# Altium footprint library LimeFEA-mPCIe_1v0.PcbLib: 31 footprints (part 1 of 2)
Each footprint in its own frame and in the unit in brackets; x right, y up, seen from the top. Pads: shape width x height; smd on the part's side, far side on the other; paste and mask are expansions set on the pad; w line width, h text height; cw(c..) or ccw(c..) is an arc to the next point about the centre after c.
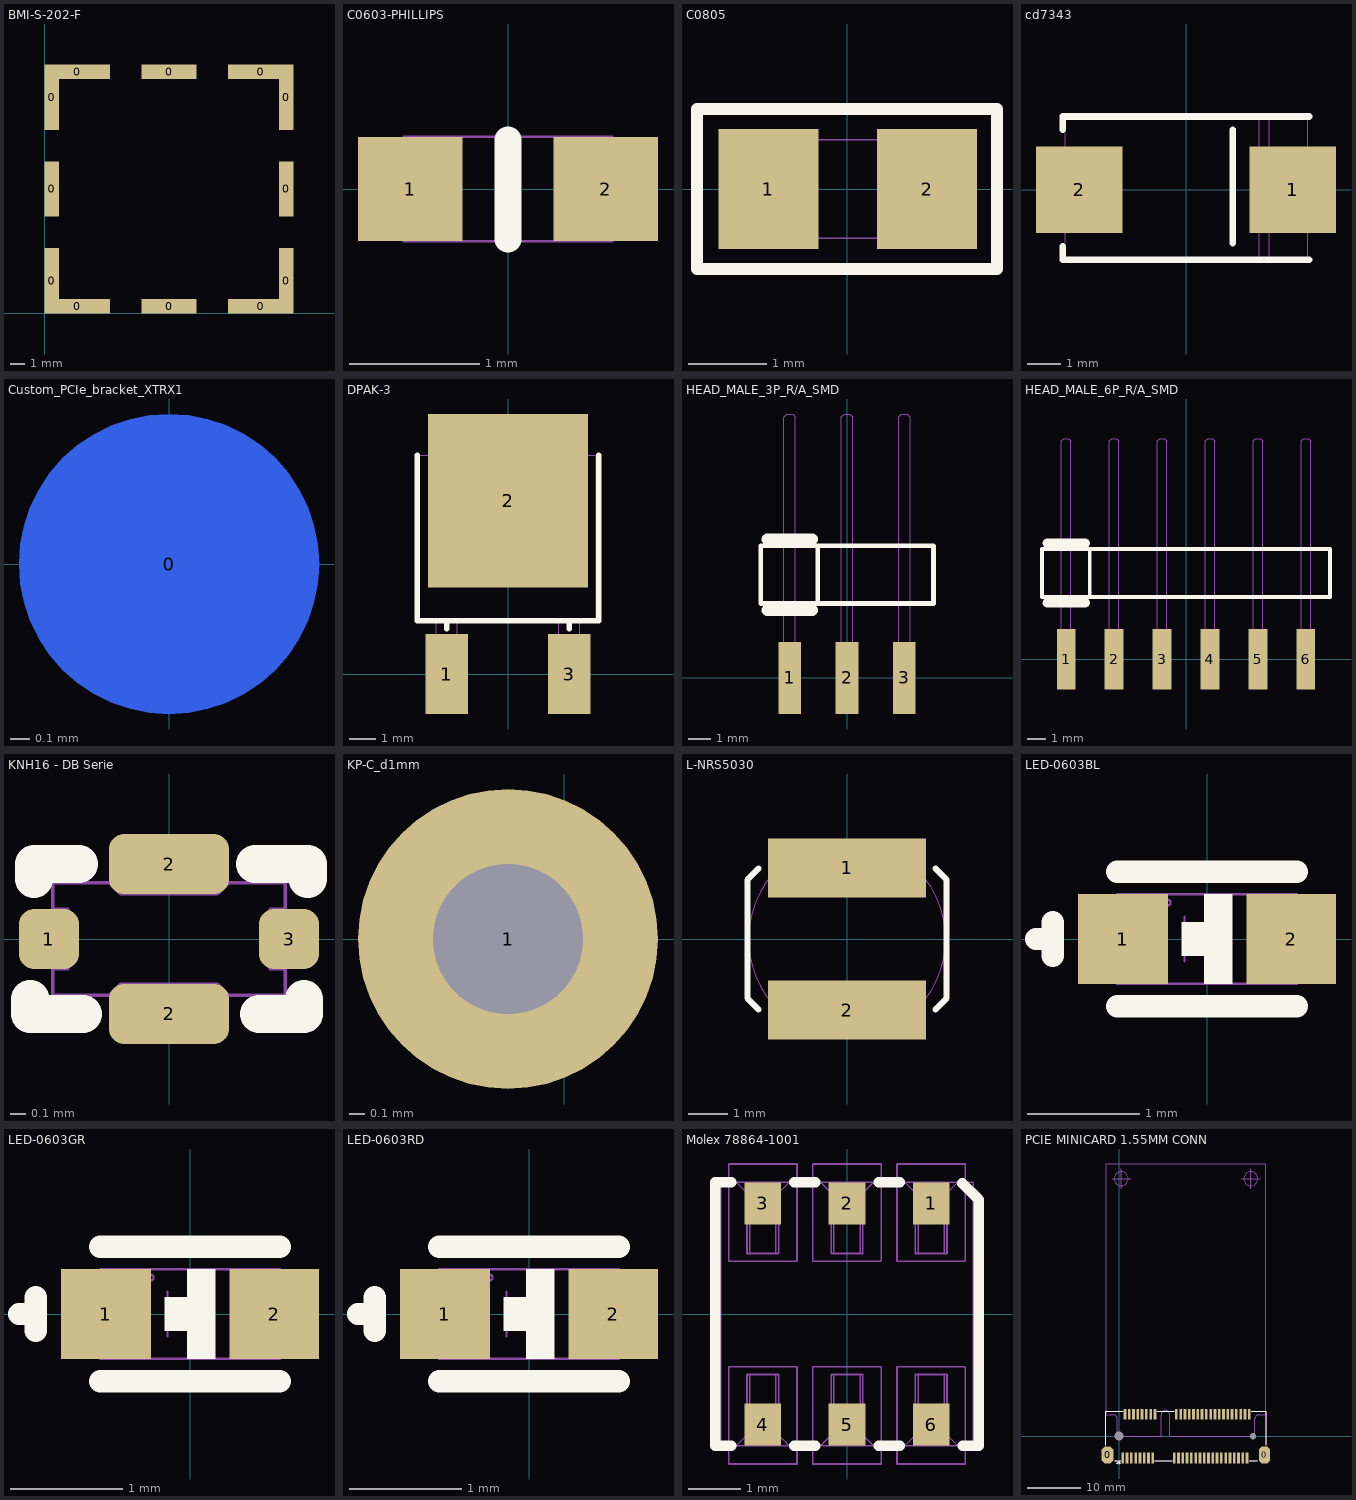
[diagram p0: the footprints below, top view; thin cyan lines are the x and y axes]

## BMI-S-202-F [mm] "Screening Shield Frame 16.5x16.5x3.6mm"
height 3.6
pads (12):
  rect 1x4.55 smd paste-2: 0(0.5,2.275) 0(0.5,15.025) 0(16.8,2.275) 0(16.8,15.025)
  rect 1x3.8 smd: 0(0.5,8.65) 0(16.8,8.65)
  rect 4.55x1 smd: 0(2.275,0.5) 0(2.275,16.8) 0(15.025,0.5) 0(15.025,16.8)
  rect 3.8x1 smd: 0(8.65,0.5) 0(8.65,16.8)
Top Paste:
  region: 17.3,16.1 16.3,16.1 16.3,12.75 17.3,12.75
  rectangle: 16.3,1.2 17.3,4.55
  rectangle: 0,1.2 1,4.55
  rectangle: 0,12.75 1,16.1
Mechanical 1:
  text ".Designator" at 0.525,0.125 h0.5
3D body: height 3.6, standoff 3.5, extent 0.4,0.6 2,16.7
3D body: height 3.6, standoff 3.5, extent 1.5,7.95 5.65,9.35
3D body: height 3.6, standoff 3.5, extent 0.6,15.3 16.7,16.9
3D body: height 3.6, standoff 3.5, extent 7.95,11.65 9.35,15.8
3D body: height 3.6, standoff 3.5, extent 15.3,0.6 16.9,16.7
3D body: height 3.6, standoff 3.5, extent 11.65,7.95 15.8,9.35
3D body: height 0.5, standoff 0, extent 16.7,13.05 16.9,16.7
3D body: height 0.5, standoff 0, extent 13.05,16.7 16.7,16.9
3D body: height 0.5, standoff 0, extent 0.6,16.7 4.25,16.9
3D body: height 0.5, standoff 0, extent 0.4,13.05 0.6,16.7
3D body: height 0.5, standoff 0, extent 13.05,0.4 16.7,0.6
3D body: height 0.5, standoff 0, extent 16.7,0.6 16.9,4.25
3D body: height 0.5, standoff 0, extent 0.4,0.6 0.6,4.25
3D body: height 0.5, standoff 0, extent 7.15,16.7 10.15,16.9
3D body: height 0.5, standoff 0, extent 16.7,7.15 16.9,10.15
3D body: height 0.5, standoff 0, extent 0.4,7.15 0.6,10.15
3D body: height 0.5, standoff 0, extent 0.6,0.4 4.25,0.6
3D body: height 3.6, standoff 3.5, extent 7.95,1.5 9.35,5.65
3D body: height 3.6, standoff 3.5, extent 5.65,5.65 11.65,11.65
3D body: height 3.6, standoff 0.5, extent 0.6,0.4 16.7,0.6
3D body: height 3.6, standoff 0.5, extent 0.4,0.6 0.6,16.7
3D body: height 3.6, standoff 0.5, extent 0.6,16.7 16.7,16.9
3D body: height 3.6, standoff 0.5, extent 16.7,0.6 16.9,16.7
3D body: height 3.6, standoff 3.5, extent 0.6,0.4 16.7,2
3D body: height 0.5, standoff 0, extent 7.15,0.4 10.15,0.6

## C0603-PHILLIPS [mm]
height 0.8
pads (2):
  rect 0.8x0.8 smd: 1(-0.75,0) 2(0.75,0)
Top Overlay:
  lines w0.203: 0,-0.384 0,0.378
Mechanical 1:
  lines w0.02: -0.4,-0.4 -0.4,0.4 ; 0.4,-0.4 0.4,0.4 ; -0.8,-0.4 -0.8,0.4 0.8,0.4 0.8,-0.4 -0.8,-0.4
  text ".Designator" at -0.2,-0.224 h0.5
3D body "SW3dPS-0603 SMD Capacitor.STEP": height 0.3, standoff 0, extent -0.8,-0.4 0.8,0.4

## C0805 [mil]
height 19.68
pads (2):
  rect 50x60 smd: 1(-39.37,0) 2(40,0)
Top Overlay:
  lines w6: -75,-40 75,-40 75,40 -75,40 -75,-40
Mechanical 1:
  lines w0.8: -19.68,-24.61 -19.68,24.61 ; 19.68,-23.62 19.68,24.61 ; -39.37,-24.61 39.37,-24.61 39.37,24.61 -39.37,24.61 -39.37,-24.61
  text ".Designator" at 10.87,9.84 h19.68
3D body "SW3dPS-0805 SMD Capacitor.STEP": height 30.79, standoff 0, extent -39.02,-24.02 39.72,25.2

## cd7343 [mm]
height 3.1
pads (2):
  rect 2.6x2.6 smd: 1(3.2,0) 2(-3.2,0)
Top Overlay:
  lines w0.2: -3.7,-1.7 -3.7,-2.1 3.7,-2.1 ; -3.7,1.8 -3.7,2.2 3.7,2.2 ; 1.4,-1.6 1.4,1.8
Mechanical 1:
  lines w0.02: -3.65,-2.15 3.65,-2.15 3.65,2.15 -3.625,2.15 -3.625,-2.15 ; 2.2,-2.1 2.2,2.2 ; 2.5,-2.1 2.5,2.2
  text ".Designator" at -0.525,-0.15 h0.5
3D body: height 3.1, standoff 3, extent 2.2,-2.025 2.5,2.025
3D body: height 3, standoff 0, extent -3.481,-2.039 3.505,2.032
3D body: height 1.5, standoff 0, extent 3.392,-0.82 3.487,0.869
3D body: height 1.5, standoff 0, extent -3.512,-0.915 -3.308,0.855

## Custom_PCIe_bracket_XTRX1 [mil] "3D STEP model of XTRX Custom-made PCIe bracket v1"
height 787.4
pads (1):
  round 60 smd far side paste-78.74: 0(0,0)
3D body "PCIe 1XTRX v11 Full Height Bracket w holes rev5.stp": height 175, standoff -675, extent -125.01,-3793.98 819.99,964.26

## DPAK-3 [mm] "TO-252"
height 2.4
pads (3):
  rect 1.6x3 smd: 1(-2.3,0) 3(2.3,0)
  rect 6x6.5 smd: 2(0,6.5)
Top Overlay:
  lines w0.2: -3.4,8.2 -3.4,2 3.4,2 3.4,8.2 ; -2.3,1.7 -2.3,2 ; 2.3,1.7 2.3,2
Mechanical 1:
  lines w0.02: -2.7,2 -2.7,-0.8 -1.9,-0.8 -1.9,2 ; 1.9,2 1.9,-0.8 2.7,-0.8 2.7,2 ; -3.3,2 -3.3,8.2 3.3,8.2 3.3,2 -3.3,2 ; -2.6,4.3 2.6,4.3 2.6,8.4 1.6,9.4 -1.6,9.4 -2.6,8.4 -2.6,4.3
  text ".Designator" at -0.311,5.675 h0.5
3D body "dpack(to-252).step": height 2.4, standoff 0, extent -3.3,-0.9 3.3,9.2

## HEAD_MALE_3P_R/A_SMD [mm] "Samtec Header Male 3p 2.54mm Right Angle SMD"
height 3.05
pads (3):
  rect 1x3.2 smd: 1(-2.54,0) 2(0,0) 3(2.54,0)
Top Overlay:
  lines w0.203: -1.295,3.3 -1.295,5.85 ; -3.815,3.3 -3.815,5.85 3.835,5.85 3.835,3.3 -3.815,3.3
  lines w0.5: -3.54,3 -1.54,3 ; -3.54,6.15 -1.54,6.15
Mechanical 1:
  lines w0.02: -2.794,-1.125 -2.792,-1.125 -2.667,-1.25 -2.413,-1.25 -2.288,-1.125 -2.286,-1.125 -2.286,11.575 -2.288,11.575 -2.413,11.7 -2.667,11.7 -2.792,11.575 -2.794,11.575 -2.794,-1.125 ; -0.254,-1.125 -0.254,11.575 -0.252,11.575 -0.127,11.7 0.127,11.7 0.252,11.575 0.254,11.575 0.254,-1.125 0.252,-1.125 0.127,-1.25 -0.127,-1.25 -0.252,-1.125 -0.254,-1.125 ; 2.286,-1.125 2.286,11.575 2.288,11.575 2.413,11.7 2.667,11.7 2.792,11.575 2.794,11.575 2.794,-1.125 2.792,-1.125 2.667,-1.25 2.413,-1.25 2.288,-1.125 2.286,-1.125
  lines w0.025: -1.275,3.3 -1.275,5.84 ; -3.815,3.3 3.835,3.3 3.835,5.84 -3.815,5.84 -3.815,3.3
  text ".Designator" at 0.95,4.379 h0.5
3D body "Header Male Pin RA 2_54 SMD.stp": height 3.05, standoff 0, extent 1.271,-1.505 3.811,11.692
3D body "Header Male Pin RA 2_54 SMD.stp": height 3.05, standoff 0, extent -1.269,-1.505 1.271,11.692
3D body "Header Male Pin RA 2_54 SMD.stp": height 3.05, standoff 0, extent -3.809,-1.505 -1.269,11.692

## HEAD_MALE_6P_R/A_SMD [mm] "Samtec Header Male 6p 2.54mm Right Angle SMD"
height 3.05
pads (6):
  rect 1x3.2 smd: 1(-6.35,0) 2(-3.81,0) 3(-1.27,0) 4(1.27,0) 5(3.81,0) 6(6.35,0)
Top Overlay:
  lines w0.203: -5.105,3.3 -5.105,5.85 ; -7.625,3.3 7.625,3.3 7.625,5.85 -7.625,5.85 -7.625,3.3
  lines w0.5: -7.35,3 -5.35,3 ; -7.35,6.15 -5.35,6.15
Mechanical 1:
  lines w0.02: -6.604,-1.125 -6.604,11.575 -6.602,11.575 -6.477,11.7 -6.223,11.7 -6.098,11.575 -6.096,11.575 -6.096,-1.125 -6.098,-1.125 -6.223,-1.25 -6.477,-1.25 -6.602,-1.125 -6.604,-1.125 ; -4.064,-1.125 -4.062,-1.125 -3.937,-1.25 -3.683,-1.25 -3.558,-1.125 -3.556,-1.125 -3.556,11.575 -3.558,11.575 -3.683,11.7 -3.937,11.7 -4.062,11.575 -4.064,11.575 -4.064,-1.125 ; -1.524,-1.125 -1.522,-1.125 -1.397,-1.25 -1.143,-1.25 -1.018,-1.125 -1.016,-1.125 -1.016,11.575 -1.018,11.575 -1.143,11.7 -1.397,11.7 -1.522,11.575 -1.524,11.575 -1.524,-1.125 ; 1.016,-1.125 1.018,-1.125 1.143,-1.25 1.397,-1.25 1.522,-1.125 1.524,-1.125 1.524,11.575 1.522,11.575 1.397,11.7 1.143,11.7 1.018,11.575 1.016,11.575 1.016,-1.125 ; 3.556,-1.125 3.558,-1.125 3.683,-1.25 3.937,-1.25 4.062,-1.125 4.064,-1.125 4.064,11.575 4.062,11.575 3.937,11.7 3.683,11.7 3.558,11.575 3.556,11.575 3.556,-1.125 ; 6.096,-1.125 6.098,-1.125 6.223,-1.25 6.477,-1.25 6.602,-1.125 6.604,-1.125 6.604,11.575 6.602,11.575 6.477,11.7 6.223,11.7 6.098,11.575 6.096,11.575 6.096,-1.125
  lines w0.025: -5.085,3.3 -5.085,5.84 ; -7.625,3.3 -7.625,5.84 7.615,5.84 7.615,3.3 -7.625,3.3
  text ".Designator" at -0.375,4.362 h0.5
3D body "Header Male Pin RA 2_54 SMD.stp": height 3.05, standoff 0, extent -7.619,-1.505 -5.079,11.692
3D body "Header Male Pin RA 2_54 SMD.stp": height 3.05, standoff 0, extent -5.079,-1.505 -2.539,11.692
3D body "Header Male Pin RA 2_54 SMD.stp": height 3.05, standoff 0, extent -2.539,-1.505 0.001,11.692
3D body "Header Male Pin RA 2_54 SMD.stp": height 3.05, standoff 0, extent 0.001,-1.505 2.541,11.692
3D body "Header Male Pin RA 2_54 SMD.stp": height 3.05, standoff 0, extent 2.541,-1.505 5.081,11.692
3D body "Header Male Pin RA 2_54 SMD.stp": height 3.05, standoff 0, extent 5.081,-1.505 7.621,11.692

## KNH16 - DB Serie [mm] "EMI Filter"
height 0.6
pads (4):
  rrect50% 0.4x0.4 smd mask+0.05: 1(-0.8,0) 3(0.8,0)
  rrect50% 0.8x0.4 smd mask+0.05: 2(0,-0.5) 2(0,0.5)
Top Overlay:
  lines w0.254: -0.925,-0.4 -0.925,-0.5 -0.575,-0.5 ; -0.9,0.4 -0.9,0.5 -0.6,0.5 ; 0.575,0.5 0.925,0.5 0.925,0.4 ; 0.6,-0.5 0.9,-0.5 0.9,-0.4
Mechanical 1:
  lines w0.02: -0.775,-0.2 -0.675,-0.2 -0.675,0.2 -0.775,0.2 ; -0.4,-0.375 -0.325,-0.3 0.325,-0.3 0.4,-0.375 ; -0.4,0.375 -0.325,0.3 0.325,0.3 0.4,0.375 ; 0.775,-0.2 0.675,-0.2 0.675,0.2 0.775,0.2
  lines w0.025: -0.775,-0.375 0.775,-0.375 0.775,0.375 -0.775,0.375 -0.775,-0.375
  text ".Designator" at -0.7,-0.25 h0.5
3D body: height 0.6, standoff 0, extent -0.4,-0.397 0.398,-0.3
3D body: height 0.6, standoff 0, extent 0.675,-0.2 0.787,0.2
3D body: height 0.6, standoff 0, extent -0.398,0.3 0.4,0.397
3D body: height 0.59, standoff 0.01, extent -0.775,-0.375 0.775,0.375
3D body: height 0.6, standoff 0, extent -0.787,-0.2 -0.675,0.2

## KP-C_d1mm [mm]
height 0.02
pads (1):
  round 2 hole 1: 1(-0.375,0)
Mechanical 1:
  circle w0.02: c0,0 r0.5
  text ".Designator" at -0.6,0.986 h0.5

## L-NRS5030 [mm] "Inductor Taiyo Yuden 5x5mm"
height 3
pads (2):
  rect 4x1.5 smd: 1(0,1.8) 2(0,-1.8)
Top Overlay:
  lines w0.152: -2.237,-1.788 -2.525,-1.5 -2.525,1.5 -2.237,1.788 ; 2.237,-1.788 2.525,-1.5 2.525,1.5 2.237,1.788
Mechanical 1:
  circle w0.025: c0,0 r2.5
  text ".Designator" at 0.65,0.4 h0.5
3D body "Inductor NRS5030.step": height 3, standoff 0, extent -2.45,-2.45 2.45,2.45

## LED-0603BL [mm] "LED BLUE 0603"
height 0.8
pads (2):
  rect 0.8x0.8 smd: 1(-0.75,0) 2(0.75,0)
Top Overlay:
  region: -0.025,0.15 -0.025,0.4 0.225,0.4 0.225,-0.4 -0.025,-0.4 -0.025,-0.15 -0.225,-0.15 -0.225,0.15
  lines w0.2: -1.525,0 -1.375,0 ; -1.375,-0.15 -1.375,0.15 ; -0.8,-0.6 0.8,-0.6 ; -0.8,0.6 0.8,0.6
Mechanical 1:
  circle w0.02: c-0.35,0.325 r0.025
  lines w0.02: -0.45,-0.4 -0.45,0.4 ; -0.2,-0.2 -0.2,0.2 ; 0.45,-0.4 0.45,0.4 ; -0.8,-0.4 -0.8,-0.125 ccw(c-0.8,0) -0.8,0.125 -0.8,0.4 0.8,0.4 0.8,0.125 ccw(c0.8,0) 0.8,-0.125 0.8,-0.4 -0.8,-0.4 ; -0.2,0 0.1,-0.2 0.1,0.2 -0.2,0
  text ".Designator" at -3.675,-0.25 h0.5
3D body: height 0.38, standoff 0, extent -1.089,-0.4 -0.664,0.403
3D body: height 0.38, standoff 0, extent 0.5,-0.4 0.925,0.4
3D body: height 0.38, standoff 0, extent -0.667,-0.4 0.501,0.4
3D body: height 0.8, standoff 0.38, extent -0.493,-0.402 0.301,0.4

## LED-0603GR [mm] "LED GREEN 0603"
height 0.8
pads (2):
  rect 0.8x0.8 smd: 1(-0.75,0) 2(0.75,0)
Top Overlay:
  region: -0.025,0.15 -0.025,0.4 0.225,0.4 0.225,-0.4 -0.025,-0.4 -0.025,-0.15 -0.225,-0.15 -0.225,0.15
  lines w0.2: -1.525,0 -1.375,0 ; -1.375,-0.15 -1.375,0.15 ; -0.8,-0.6 0.8,-0.6 ; -0.8,0.6 0.8,0.6
Mechanical 1:
  circle w0.02: c-0.35,0.325 r0.025
  lines w0.02: -0.45,-0.4 -0.45,0.4 ; -0.2,-0.2 -0.2,0.2 ; 0.45,-0.4 0.45,0.4 ; -0.8,-0.4 -0.8,-0.125 ccw(c-0.8,0) -0.8,0.125 -0.8,0.4 0.8,0.4 0.8,0.125 ccw(c0.8,0) 0.8,-0.125 0.8,-0.4 -0.8,-0.4 ; -0.2,0 0.1,-0.2 0.1,0.2 -0.2,0
  text ".Designator" at -3.675,-0.238 h0.5
3D body: height 0.38, standoff 0, extent -1.089,-0.4 -0.664,0.403
3D body: height 0.38, standoff 0, extent 0.5,-0.4 0.925,0.4
3D body: height 0.38, standoff 0, extent -0.667,-0.4 0.501,0.4
3D body: height 0.8, standoff 0.38, extent -0.493,-0.402 0.301,0.4

## LED-0603RD [mm] "LED RED 0603"
height 0.8
pads (2):
  rect 0.8x0.8 smd: 1(-0.75,0) 2(0.75,0)
Top Overlay:
  region: -0.025,0.15 -0.025,0.4 0.225,0.4 0.225,-0.4 -0.025,-0.4 -0.025,-0.15 -0.225,-0.15 -0.225,0.15
  lines w0.2: -1.525,0 -1.375,0 ; -1.375,-0.15 -1.375,0.15 ; -0.8,-0.6 0.8,-0.6 ; -0.8,0.6 0.8,0.6
Mechanical 1:
  circle w0.02: c-0.35,0.325 r0.025
  lines w0.02: -0.45,-0.4 -0.45,0.4 ; -0.2,-0.2 -0.2,0.2 ; 0.45,-0.4 0.45,0.4 ; -0.8,-0.4 -0.8,-0.125 ccw(c-0.8,0) -0.8,0.125 -0.8,0.4 0.8,0.4 0.8,0.125 ccw(c0.8,0) 0.8,-0.125 0.8,-0.4 -0.8,-0.4 ; -0.2,0 0.1,-0.2 0.1,0.2 -0.2,0
  text ".Designator" at -3.675,-0.218 h0.5
3D body: height 0.38, standoff 0, extent -1.089,-0.4 -0.664,0.403
3D body: height 0.38, standoff 0, extent 0.5,-0.4 0.925,0.4
3D body: height 0.38, standoff 0, extent -0.667,-0.4 0.501,0.4
3D body: height 0.8, standoff 0.38, extent -0.493,-0.402 0.301,0.4

## Molex 78864-1001 [mm] "Spring connector, gap=1.2~1.6mm, pitch=1.6mm, 6pos"
height 2
pads (6):
  rect 0.7x0.8 smd: 1(1.6,2.1) 2(0,2.1) 3(-1.6,2.1) 4(-1.6,-2.1) 5(0,-2.1) 6(1.6,-2.1)
Top Overlay:
  lines w0.2: -2.2,-2.5 -2.5,-2.5 -2.5,2.5 -2.2,2.5 ; -1,-2.5 -0.6,-2.5 ; -1,2.5 -0.6,2.5 ; 0.6,-2.5 1,-2.5 ; 0.6,2.5 1,2.5 ; 2.188,2.488 2.5,2.175 2.5,-2.5 2.2,-2.5
Mechanical 1:
  lines w0.03: -2.1,-2.5 -1.9,-2.3 -1.9,-1.15 -1.3,-1.15 -1.3,-2.3 -1.1,-2.5 ; -2.1,2.5 -1.9,2.3 -1.9,1.15 -1.3,1.15 -1.3,2.3 -1.1,2.5 ; -1.85,-1.15 -1.85,-2.4 -1.35,-2.4 -1.35,-1.15 ; -1.85,1.15 -1.85,2.4 -1.35,2.4 -1.35,1.15 ; -0.5,-2.5 -0.3,-2.3 -0.3,-1.15 0.3,-1.15 0.3,-2.3 0.5,-2.5 ; -0.5,2.5 -0.3,2.3 -0.3,1.15 0.3,1.15 0.3,2.3 0.5,2.5 ; -0.25,-1.15 -0.25,-2.4 0.25,-2.4 0.25,-1.15 ; -0.25,1.15 -0.25,2.4 0.25,2.4 0.25,1.15 ; 1.1,-2.5 1.3,-2.3 1.3,-1.15 1.9,-1.15 1.9,-2.3 2.1,-2.5 ; 1.1,2.5 1.3,2.3 1.3,1.15 1.9,1.15 1.9,2.3 2.1,2.5 ; 1.35,-1.15 1.35,-2.4 1.85,-2.4 1.85,-1.15 ; 1.35,1.15 1.35,2.4 1.85,2.4 1.85,1.15 ; -2.4,-2.5 -2.4,2.5 2.4,2.5 2.4,-2.5 -2.4,-2.5 ; -2.25,-2.85 -2.25,-1 -0.95,-1 -0.95,-2.85 -2.25,-2.85 ; -2.25,1 -2.25,2.85 -0.95,2.85 -0.95,1 -2.25,1 ; -0.65,-2.85 -0.65,-1 0.65,-1 0.65,-2.85 -0.65,-2.85 ; -0.65,1 0.65,1 0.65,2.85 -0.65,2.85 -0.65,1 ; 0.95,-2.85 0.95,-1 2.25,-1 2.25,-2.85 0.95,-2.85 ; 0.95,1 2.25,1 2.25,2.85 0.95,2.85 0.95,1
  text ".Designator" at -0.25,0.7 h0.5
3D body "Molex_788641001.stp": height 2, standoff 0, extent -2.4,-2.5 2.4,2.5

## PCIE MINICARD 1.55MM CONN [mm] "PCIe MiniCard connector full size with mounting nuts"
height 4
pads (56):
  oct 2.3x3.2 smd: 0(-2.15,-3.5)
  oct 2x3.2 smd: 0(27.15,-3.5)
  rect 0.5x2 smd mask+0.05: 1(0.7,-4.1) 2(1.1,4.1) 3(1.5,-4.1) 4(1.9,4.1) 5(2.3,-4.1) 6(2.7,4.1) 7(3.1,-4.1) 8(3.5,4.1) 9(3.9,-4.1) 10(4.3,4.1) 11(4.7,-4.1) 12(5.1,4.1) 13(5.5,-4.1) 14(5.9,4.1) 15(6.3,-4.1) 16(6.7,4.1) 17(10.3,-4.1) 18(10.7,4.1) 19(11.1,-4.1) 20(11.5,4.1) 21(11.9,-4.1) 22(12.3,4.1) 23(12.7,-4.1) 24(13.1,4.1) 25(13.5,-4.1) 26(13.9,4.1) 27(14.3,-4.1) 28(14.7,4.1) 29(15.1,-4.1) 30(15.5,4.1) 31(15.9,-4.1) 32(16.3,4.1) 33(16.7,-4.1) 34(17.1,4.1) 35(17.5,-4.1) 36(17.9,4.1) 37(18.3,-4.1) 38(18.7,4.1) 39(19.1,-4.1) 40(19.5,4.1) 41(19.9,-4.1) 42(20.3,4.1) 43(20.7,-4.1) 44(21.1,4.1) 45(21.5,-4.1) 46(21.9,4.1) 47(22.3,-4.1) 48(22.7,4.1) 49(23.1,-4.1) 50(23.5,4.1) 51(23.9,-4.1) 52(24.3,4.1)
  round 0 hole 1.7 unplated: MH0(0,0)
  round 0 hole 1.2 unplated: MH0(25,0)
Top Overlay:
  lines w0.2: -2.5,-1.7 -2.5,4.6 0.7,4.6 ; -0.8,-4.6 0.3,-4.6 ; 6.7,-4.6 9.9,-4.6 ; 7.1,4.6 10.3,4.6 ; 24.3,-4.6 25.8,-4.6 ; 24.7,4.6 27.5,4.6 27.5,-1.7
  lines w0.25: -0.4,-5.2 -0.1,-4.9 0.2,-5.2
Mechanical 1:
  lines w0.1: -2.5,-1.7 -2.5,4.6 0.7,4.6 ; -0.8,-4.6 0.3,-4.6 ; 6.7,-4.6 9.9,-4.6 ; 7.1,4.6 10.3,4.6 ; 24.3,-4.6 25.8,-4.6 ; 24.7,4.6 27.5,4.6 27.5,-1.7
Mechanical 15:
  circle w0.1: c0.4,48.05 r1.3
  circle w0.1: c24.6,48.05 r1.3
  lines w0.1: -1.3,48.05 2.2,48.05 ; 0.4,46.2 0.4,49.9 ; 22.9,48.05 26.4,48.05 ; 24.6,46.2 24.6,49.9
  lines w0.123: -2.35,4 -2.35,50.8 27.35,50.8 27.35,4 26.15,4 ccw(c26.15,3.2) 25.35,3.2 25.35,0 9.45,0 9.45,4 ccw(c8.65,4) 7.85,4 7.85,0 -0.35,0 -0.35,3.2 ccw(c-1.15,3.2) -1.15,4 -2.35,4
3D body "c-2041119-1-c-3d.stp": height 4, standoff -0.65, extent -2.45,-4.545 27.45,4.545